# Altium schematic symbol library TBD62003AFNG.SchLib: 1 symbol
Pins are listed as number, name and electrical type; pins without a type are passive.

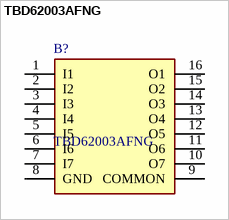
[diagram p0: symbol TBD62003AFNG]

## TBD62003AFNG
designator B?
Power Switch/Driver 1:1 N-Channel 300mA 16-SOP; Manufacturer_Name: Toshiba; Geometry.Height: 1.6mm; Manufacturer_Part_Number: TBD62003AFNG; Mouser Part Number: N/A; Mouser Price/Stock: https://www.mouser.co.uk/ProductDetail/Toshiba/TBD62003AFNG?qs=By6Nw2ByBD2S7CAJp1Mq6Q%3D%3D; Arrow Part Number: *; Arrow Price/Stock: *; Datasheet Link: https://toshiba.semicon-storage.com/info/docget.jsp?did=29886&prodName=TBD62003AFNG
footprint SOP65P640X160-16N
pins: 1 I1, 2 I2, 3 I3, 4 I4, 5 I5, 6 I6, 7 I7, 8 GND, 9 COMMON, 10 O7, 11 O6, 12 O5, 13 O4, 14 O3, 15 O2, 16 O1